# Altium schematic symbol library TSM-102-01-L-SV-P-TR.SchLib: 1 symbol
Pins are listed as number, name and electrical type; pins without a type are passive.

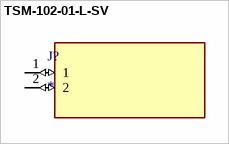
[diagram p0: symbol TSM-102-01-L-SV]

## TSM-102-01-L-SV
designator J?
MF: {'manufacturer': u'Samtec Inc.'}; MP: TSM-102-01-L-SV; Value: *; Package: None; Price: None; Availability: Unavailable
footprint TSM-102-01-L-SV
pins: 1 (io), 2 (io)